# Altium integrated library ST Video East-West Correction Cct.IntLib: 5 symbols
Pins are listed as number, name and electrical type; pins without a type are passive.

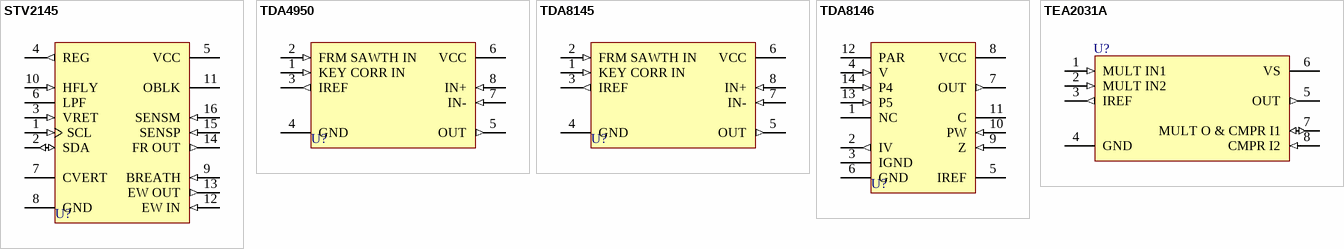
[diagram p0: symbols STV2145 to TEA2031A]

## STV2145
designator U?
I²C Bus Controlled East-West and Vertical Interface; Published: 24-Aug-2001; LatestRevisionDate: 17-Jul-2002; LatestRevisionNote: Re-released for DXP Platform.; DatasheetDocument: Apr-1996; PackageDocument: Apr-1996; PackageReference: DIP16; Publisher: Altium Limited
footprint DIP16 (DIP; 16 Leads; Row Spacing 7.62 mm; Pitch 2.54 mm)
pins: 1 SCL (in), 2 SDA (io), 3 VRET (in), 4 REG (out), 5 VCC (power), 6 LPF, 7 CVERT, 8 GND (power), 9 BREATH (in), 10 HFLY (in), 11 OBLK (oc), 12 EW IN (in), 13 EW OUT (out), 14 FR OUT (out), 15 SENSP (in), 16 SENSM (in)

## TDA4950
designator U?
TV East/West Correction Circuit; Published: 24-Aug-2001; LatestRevisionDate: 17-Jul-2002; LatestRevisionNote: Re-released for DXP Platform.; DatasheetDocument: Oct-1998; PackageDocument: Sep-1988; PackageReference: MDIP8; Publisher: Altium Limited
footprint MDIP8 (DIP; 8 Leads; Row Spacing 7.62 mm; Pitch 2.54 mm)
pins: 1 KEY CORR IN (in), 2 FRM SAWTH IN (in), 3 IREF (out), 4 GND (power), 5 OUT (out), 6 VCC (power), 7 IN- (in), 8 IN+ (in)

## TDA8145
designator U?
TV East/West Correction Circuit for Square Tubes; Published: 24-Aug-2001; LatestRevisionDate: 17-Jul-2002; LatestRevisionNote: Re-released for DXP Platform.; DatasheetDocument: Oct-1998; PackageDocument: Sep-1988; PackageReference: MDIP8; Publisher: Altium Limited
footprint MDIP8 (DIP; 8 Leads; Row Spacing 7.62 mm; Pitch 2.54 mm)
pins: 1 KEY CORR IN (in), 2 FRM SAWTH IN (in), 3 IREF (out), 4 GND (power), 5 OUT (out), 6 VCC (power), 7 IN- (in), 8 IN+ (in)

## TDA8146
designator U?
East/West Correction for Rectangular TV-Tubes; Published: 24-Aug-2001; LatestRevisionDate: 17-Jul-2002; LatestRevisionNote: Re-released for DXP Platform.; DatasheetDocument: May-1993; PackageDocument: Jan-1997; PackageReference: DIP14; Publisher: Altium Limited
footprint DIP14 (DIP; 14 Leads; Row Spacing 7.62 mm; Pitch 2.54 mm)
pins: 1 NC, 2 IV (out), 3 IGND (power), 4 V (in), 5 IREF, 6 GND (power), 7 OUT (out), 8 VCC (power), 9 Z (in), 10 PW (in), 11 C, 12 PAR, 13 P5 (in), 14 P4 (in)

## TEA2031A
designator U?
Colour TV East-West Correction; Published: 24-Aug-2001; LatestRevisionDate: 17-Jul-2002; LatestRevisionNote: Re-released for DXP Platform.; DatasheetDocument: May-1993; PackageReference: DIP8; Publisher: Altium Limited; Code_JEDEC: MO-001-AN
footprint DIP8 (DIP; 8 Leads; Row Spacing 7.62 mm; Pitch 2.54 mm)
pins: 1 MULT IN1 (in), 2 MULT IN2 (in), 3 IREF (out), 4 GND (power), 5 OUT (out), 6 VS (power), 7 MULT O & CMPR I1 (io), 8 CMPR I2 (in)